# EAGLE library part 2**?(PTB60) (library PocketKerbal)
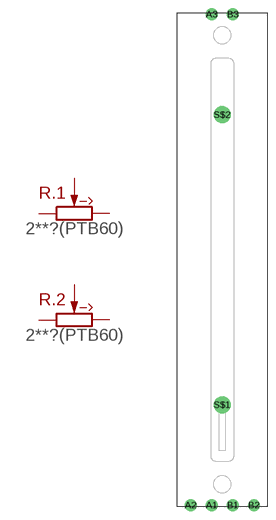
[diagram p10: symbol with the pads of PTB6044; footprint PTB6044]

Designator prefix R; gates .1=POTENTIOMETER .2=POTENTIOMETER

## 2A10K(PTB60)  [PTB6044]
A1  .1:CCW  pas
A2  .1:W  pas
A3  .1:CW  pas
B1  .2:CCW  pas
B2  .2:W  pas
B3  .2:CW  pas

## Footprint PTB6044 (pad centres in mm)
drill 1.4: A1 -1.875,-43.75; A2 -5.625,-43.75; A3 -1.875,43.75; B1 1.875,-43.75; B2 5.625,-43.75; B3 1.875,43.75
drill 2: S$1 0,-25.85; S$2 0,25.85